# EAGLE library part MAX4038 (library opamps)
MAX4038: Dual rail-to-rail opamp (Maxim) +4V, ±13mA, 20pA bias 2mV offset, 4kHz UGF, 500nV/rt(Hz) noise
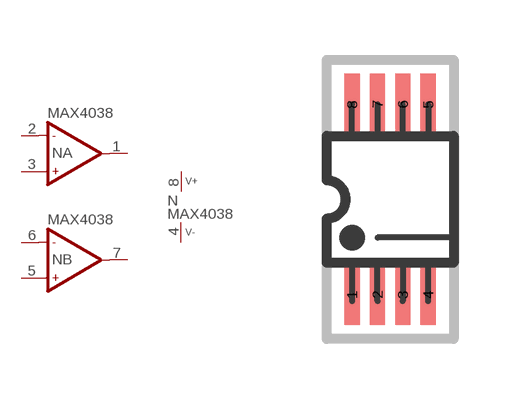
[diagram p245: symbol with the pads of USOP08; footprint USOP08]

Designator prefix N; gates A=OP-NAME B=OP-NAME P=V+-

## MAX4038  [USOP08]
1  A:OUT  out
2  A:IN-  in
3  A:IN+  in
4  P:V-  pwr
5  B:IN+  in
6  B:IN-  in
7  B:OUT  out
8  P:V+  pwr

## MAX4038S  [USOP08]
Pads as for USOP08

## Footprint USOP08 (pad centres in mm)
µSOP-8: Fine-pitch SMD, 8 pins
smd 0.381 x 1.524: 1 -0.953,-2.381; 2 -0.318,-2.381; 3 0.318,-2.381; 4 0.953,-2.381; 5 0.953,2.381; 6 0.318,2.381; 7 -0.318,2.381; 8 -0.953,2.381